# Altium footprint library 11-Fuse.PcbLib: 50 footprints (part 1 of 4)
Each footprint in its own frame and in the unit in brackets; x right, y up, seen from the top. Pads: shape width x height; smd on the part's side, far side on the other; paste and mask are expansions set on the pad; w line width, h text height; cw(c..) or ccw(c..) is an arc to the next point about the centre after c.
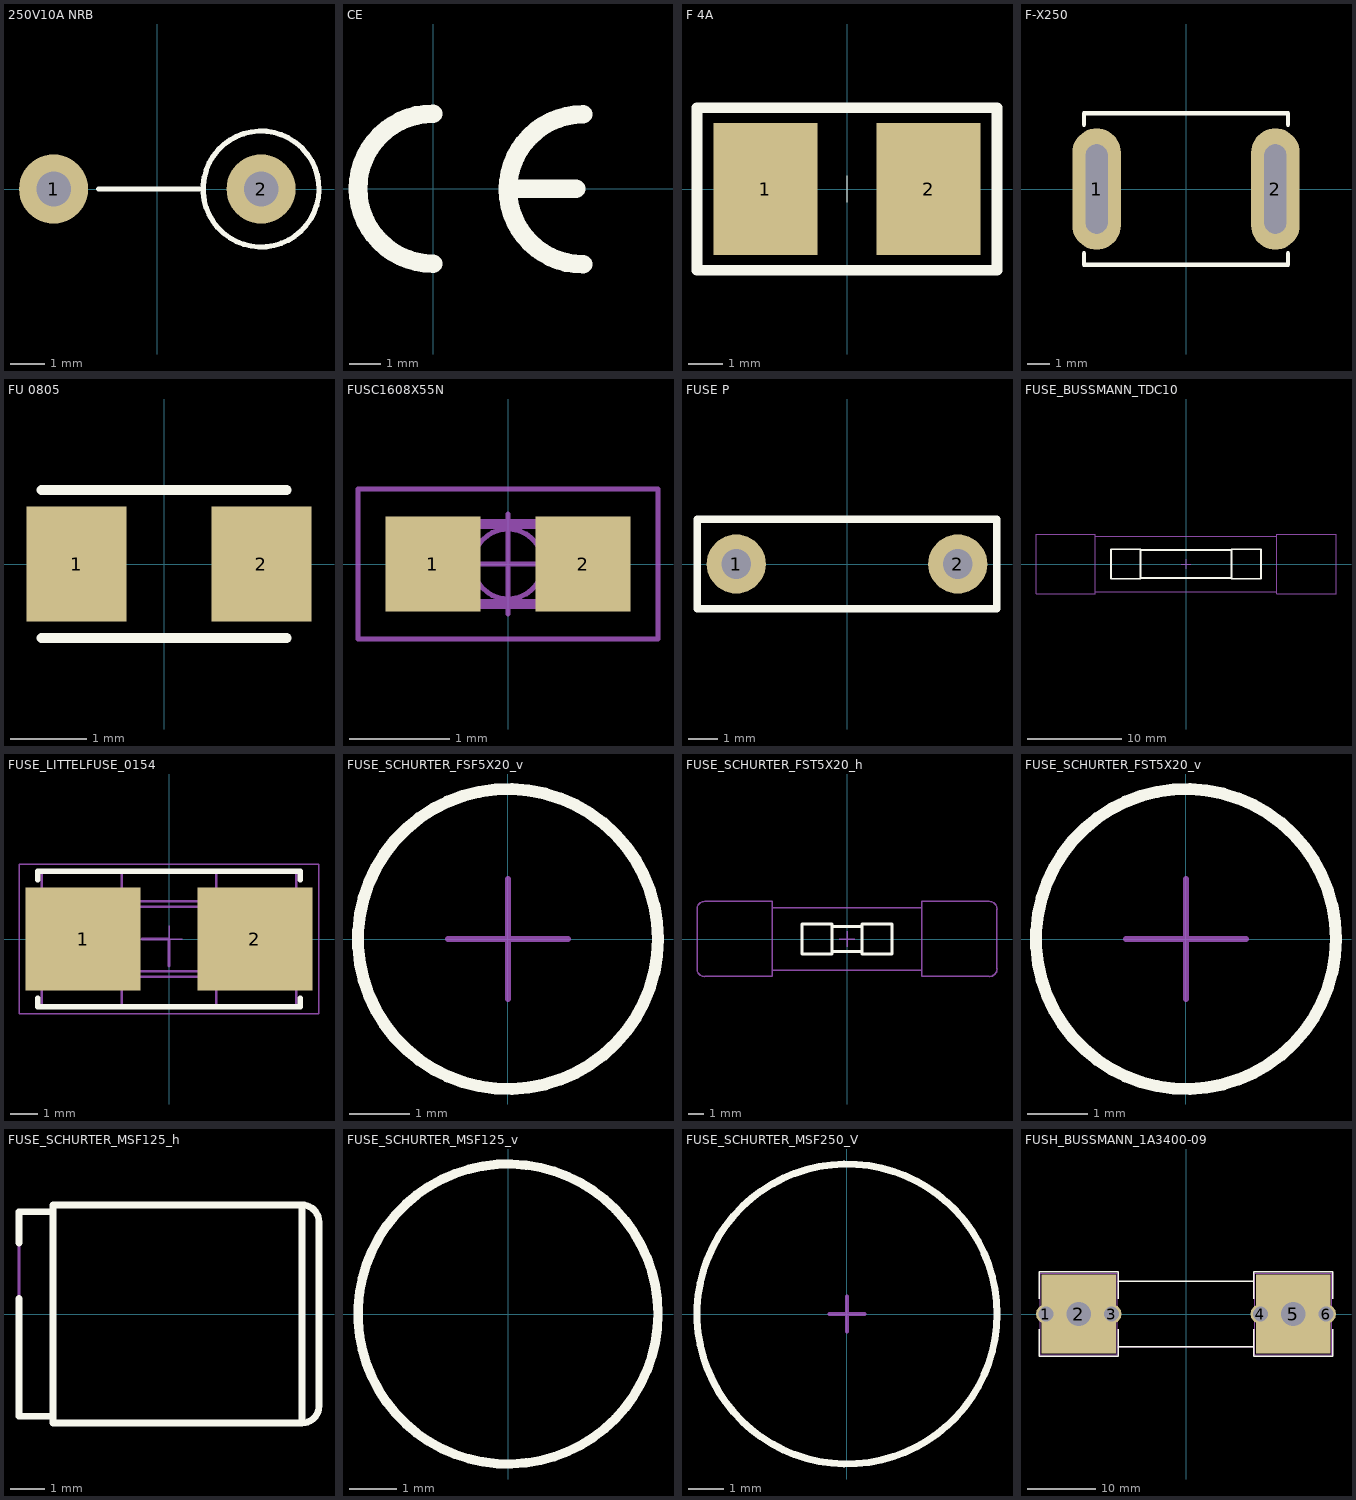
[diagram p0: the footprints below, top view; thin cyan lines are the x and y axes]

## 250V10A NRB [mm]
height 5.46
pads (2):
  round 2 hole 1: 1(-3,0) 2(3,0)
Top Overlay:
  lines w0.15: -1.7,0 1.2,0 ; 3.986,1.356 ccw(c3,0) 4.022,1.329
3D body "v200-100.stp": height 0.02, standoff -1.65, extent 2,-1 4,1
3D body "v200-100.stp": height 0.02, standoff -1.65, extent -4,-1 -2,1
3D body "250v10a-pic.stp": height 14.24, standoff -3, extent -3.05,-1.9 4.7,1.7

## CE [mm]
Top Overlay:
  lines w0.6: 0,-2.413 cw(c0,0) 0,2.413 ; 2.53,0 4.6,0 ; 4.826,-2.438 cw(c4.826,-0.025) 4.826,2.388
3D body "ce.stp": height 0.02, standoff 0, extent -2.725,-2.725 4.82,2.725

## F 4A [mm]
height 5.46
pads (2):
  rect 3x3.81 smd: 1(-2.349,0)
  rect 3x3.81 smd mask+0.07: 2(2.349,0)
Top Overlay:
  lines w0.025: 0,-0.381 0,0.381
  lines w0.305: -4.318,-2.337 4.318,-2.337 4.318,2.337 -4.318,2.337 -4.318,-2.337
3D body "3-3_81.stp": height 0.01, standoff 0, extent 0.85,-1.905 3.85,1.905
3D body "3-3_81.stp": height 0.01, standoff 0, extent -3.849,-1.905 -0.849,1.905
3D body "1812_ptc.stp": height 1, standoff 0, extent -2.388,-1.676 2.342,1.734

## F-X250 [mm]
height 5.46
pads (2):
  oval 2.2x5.5 hole 1 slot 4.05 at 90 deg mask+0.07: 1(-4.05,0)
  oval 2.2x5.5 hole 1 slot 4.05 at 90 deg: 2(4.05,0)
Top Overlay:
  lines w0.2: -4.623,-2.921 -4.623,-3.429 4.623,-3.429 4.623,-2.921 ; -4.623,2.921 -4.623,3.429 4.623,3.429 4.623,2.921
3D body "f-250.stp": height 1.7, standoff -1.3, extent -4.45,-3.25 4.45,3.25
3D body "pad5_5-2_2_0_8.stp": height 0, standoff -2.2, extent -5.169,-2.757 -2.969,2.743
3D body "pad5_5-2_2_0_8.stp": height 0, standoff -2.2, extent 2.984,-2.763 5.184,2.737

## FU 0805 [mm] "PTC"
height 5.46
pads (2):
  rect 1.3x1.5 smd: 1(-1.143,0)
  rect 1.3x1.5 smd mask+0.07: 2(1.27,0)
Top Overlay:
  lines w0.127: -1.6,-0.965 1.6,-0.965 ; -1.6,0.965 1.6,0.965
3D body "p150-130.stp": height 0.02, standoff 0, extent 0.62,-0.75 1.92,0.75
3D body "p150-130.stp": height 0.02, standoff 0, extent -1.793,-0.75 -0.493,0.75
3D body "fb-0805.stp": height 0.87, standoff 0, extent -1,-0.75 1,0.75

## FUSC1608X55N [mm] "Chip Fuse, 2-Leads, Body 1.6mm x 0.8mm, IPC Medium Density"
height 0.55
pads (2):
  rect 0.95x0.95 smd: 1(-0.75,0) 2(0.75,0)
Mechanical 14:
  lines w0.1: -0.8,-0.4 0.8,-0.4 0.8,0.4 -0.8,0.4 -0.8,-0.4
Mechanical 15:
  circle w0.05: c0,0 r0.35
  lines w0.05: -0.5,0 0.5,0 ; 0,-0.5 0,0.5 ; -1.5,-0.75 1.5,-0.75 1.5,0.75 -1.5,0.75 -1.5,-0.75
3D body "FUSC1608X55N.stp": height 0.5, standoff 0, extent -0.85,-0.45 0.85,0.45
3D body "p095-095.stp": height 0.02, standoff 0, extent 0.275,-0.475 1.225,0.475
3D body "p095-095.stp": height 0.02, standoff 0, extent -1.225,-0.475 -0.275,0.475

## FUSE P [mm]
height 0.55
pads (2):
  round 2 hole 1: 1(-3.75,0) 2(3.75,0)
Top Overlay:
  lines w0.254: -5.08,-1.524 5.08,-1.524 5.08,1.524 -5.08,1.524 -5.08,-1.524
3D body "v200-100.stp": height 0.02, standoff -1.65, extent 2.75,-1 4.75,1
3D body "v200-100.stp": height 0.02, standoff -1.65, extent -4.75,-1 -2.75,1
3D body "fuse-p.stp": height 10, standoff -1.53, extent -4.25,-0.78 4.25,0.74

## FUSE_BUSSMANN_TDC10 [mm] "6.3x32mm Cylindrical Fuse, TDC10 Serie"
height 6.3
Top Overlay:
  lines w0.2: -4.85,-1.475 4.85,-1.475 ; -4.85,1.475 4.85,1.475 ; -8,-1.575 -8,1.575 -4.85,1.575 -4.85,-1.575 -8,-1.575 ; 4.85,-1.575 4.85,1.575 8,1.575 8,-1.575 4.85,-1.575
Mechanical 8:
  lines w0.1: -0.5,0 0,0 ; 0,-0.5 0,0 ; 0,0.5 0,0 ; 0.5,0 0,0
Mechanical 14:
  lines w0.1: -9.7,-2.95 9.7,-2.95 ; -9.7,2.95 9.7,2.95 ; -16,-3.15 -16,3.15 -9.7,3.15 -9.7,-3.15 -16,-3.15 ; 9.7,-3.15 9.7,3.15 16,3.15 16,-3.15 9.7,-3.15
3D body "FUSE_BUSSMANN_TDC10.stp": height 6.3, standoff 0, extent -16,-3.15 16,3.15

## FUSE_LITTELFUSE_0154 [mm] "SMF Fuse and Holder, 2-Leads, Body 9.73x5.03mm"
height 3.81
pads (2):
  rect 4.245x3.81 smd: 1(-3.188,0) 2(3.188,0)
Top Overlay:
  lines w0.2: -4.865,-2.2 -4.865,-2.515 4.865,-2.515 4.865,-2.2 ; -4.865,2.2 -4.865,2.515 4.865,2.515 4.865,2.2
Mechanical 8:
  lines w0.1: -4.188,0 -3.188,0 -3.188,-1 ; -1,0 0,0 0,-1 ; 3.188,-1 3.188,0 4.188,0
Mechanical 14:
  lines w0.1: -4.715,-1.001 -4.865,-1 -4.865,1 -4.715,1 ; -1.75,-2.515 -1.75,-1.4 ; -1.75,1.4 -1.75,2.515 ; -1.6,-1.195 1.6,-1.195 ; -1.6,1.195 1.6,1.195 ; 1.75,-2.515 1.75,-1.415 ; 1.75,1.4 1.75,2.515 ; 4.715,-1 4.865,-1 4.865,1 4.715,1 ; -4.715,-2.515 4.715,-2.515 4.715,2.515 -4.715,2.515 -4.715,-2.515 ; -3.15,-1.4 3.15,-1.4 3.15,1.4 -3.15,1.4 -3.15,-1.4 ; -3.05,-1.145 ccw(c-2.85,-1.145) -2.85,-1.345 -1.6,-1.345 -1.6,1.345 -2.85,1.345 ccw(c-2.85,1.145) -3.05,1.145 -3.05,-1.145 ; 1.6,-1.345 1.6,1.345 2.85,1.345 cw(c2.85,1.145) 3.05,1.145 3.05,-1.145 cw(c2.85,-1.145) 2.85,-1.345 1.6,-1.345
Mechanical 15:
  lines w0.05: -0.5,0 0.5,0 ; 0,-0.5 0,0.5 ; -5.56,-2.765 -5.56,2.765 5.56,2.765 5.56,-2.765 -5.56,-2.765
3D body "FUSE_LITTELFUSE_0154.stp": height 3.81, standoff 0, extent -4.865,-2.515 4.865,2.515
3D body "p425-381.stp": height 0.02, standoff 0, extent 1.062,-1.905 5.312,1.905
3D body "p425-381.stp": height 0.02, standoff 0, extent -5.3,-1.905 -1.05,1.905

## FUSE_SCHURTER_FSF5X20_v [mm] "5x20mm Cylindrical Fuse, SCHURTER FSF5X20 Serie"
height 20.5
Top Overlay:
  circle w0.2: c0,0 r2.5
Mechanical 8:
  lines w0.1: -1,0 0,0 ; 0,-1 0,0 ; 0,1 0,0 ; 1,0 0,0
Mechanical 14:
  circle w0.1: c0,0 r2.5
3D body "FUSE_SCHURTER_FSF5X20_v.stp": height 20, standoff 0, extent -2.5,-2.5 2.5,2.5

## FUSE_SCHURTER_FST5X20_h [mm] "5x20mm Cylindrical Fuse, SCHURTER FST5X20 Serie"
height 5.3
Top Overlay:
  lines w0.2: -1,-0.84 1,-0.84 ; -1,0.84 1,0.84 ; -3,-1 -3,1 -1,1 -1,-1 -3,-1 ; 1,-1 3,-1 3,1 1,1 1,-1
Mechanical 8:
  lines w0.1: -0.5,0 0,0 ; 0,-0.5 0,0 ; 0,0.5 0,0 ; 0.5,0 0,0
Mechanical 14:
  lines w0.1: -5,-2.1 5,-2.1 ; -5,2.1 5,2.1 ; -10,-2 ccw(c-9.5,-2) -9.5,-2.5 -5,-2.5 -5,2.5 -9.5,2.5 ccw(c-9.5,2) -10,2 -10,-2 ; 5,-2.5 5,2.5 9.5,2.5 cw(c9.5,2) 10,2 10,-2 cw(c9.5,-2) 9.5,-2.5 5,-2.5
3D body "FUSE_SCHURTER_FST5X20.stp": height 5, standoff 0, extent -10,-2.5 10,2.5

## FUSE_SCHURTER_FST5X20_v [mm] "5x20mm Cylindrical Fuse, SCHURTER FST5X20 Serie"
height 20.5
Top Overlay:
  circle w0.2: c0,0 r2.5
Mechanical 8:
  lines w0.1: -1,0 0,0 ; 0,-1 0,0 ; 0,1 0,0 ; 1,0 0,0
Mechanical 14:
  circle w0.1: c0,0 r2.5
3D body "FUSE_SCHURTER_FST5X20_v.stp": height 20, standoff 0, extent -2.5,-2.5 2.5,2.5

## FUSE_SCHURTER_MSF125_h [mm] "SHURTER MSF 125 Serie, Subminiature Fuse, 6.4 mm Diameter  x 8.8mm Height (Horizontal Mount)"
height 6.6
Top Overlay:
  lines w0.2: 3.556,0.459 3.556,-3 4.556,-3 ; 3.556,2.081 3.556,3 4.556,3 ; 11.856,-3.2 ccw(c11.856,-2.7) 12.356,-2.7 12.356,2.7 ccw(c11.856,2.7) 11.856,3.2 ; 11.856,-3.2 4.556,-3.2 4.556,3.2 11.856,3.2 ; 11.856,-3.2 11.856,3.2
Mechanical 14:
  lines w0.1: 4.556,-3 3.556,-3 3.556,3 4.556,3 ; 11.556,3.2 11.856,3.2 ; 11.856,-3.2 ccw(c11.856,-2.7) 12.356,-2.7 12.356,2.7 ccw(c11.856,2.7) 11.856,3.2 ; 11.856,-3.2 4.556,-3.2 4.556,3.2 11.856,3.2 ; 11.856,-3.2 11.856,3.2
3D body "FUSE_SCHURTER_MSF125_h.stp": height 6.63, standoff 0.23, extent -0.744,-3.2 12.356,3.2

## FUSE_SCHURTER_MSF125_v [mm] "SHURTER MSF 125 Serie, Subminiature Fuse, 6.4 mm Diameter  x 8.8mm Height"
height 8.8
Top Overlay:
  circle w0.2: c0,0 r3.2
Mechanical 14:
  circle w0.1: c0,0 r3.2
3D body "FUSE_SCHURTER_MSF125_v.stp": height 15.45, standoff 2.35, extent -3.2,-3.2 3.2,3.2

## FUSE_SCHURTER_MSF250_V [mm] "Subminiature Fuse, Pitch 5.08mm, 8.5 mm Diameter  x 8.5mm Height, MSF 250 Serie"
height 8.5
Top Overlay:
  circle w0.2: c0,0 r4.25
Mechanical 8:
  lines w0.1: -0.5,0 0,0 ; 0,-0.5 0,0 ; 0,0.5 0,0 ; 0.5,0 0,0
Mechanical 14:
  circle w0.1: c0,0 r4.25
3D body "FUSE_SCHURTER_MSF250.stp": height 12.85, standoff 0.9, extent -4.25,-4.25 4.25,4.25

## FUSH_BUSSMANN_1A3400-09 [mm] "BUSSMANN 1A3400-09, Fuse holder for 10x38mm Fuses"
height 18
pads (6):
  round 2.9 hole 2.2: 1(-20.65,0) 3(-10.95,0) 4(10.95,0) 6(20.65,0)
  rect 11x11.7 / inner round 5.5 / far side round 5.5 hole 3.6: 2(-15.8,0) 5(15.8,0)
Top Overlay:
  lines w0.2: -21.65,-2.25 -21.65,-6.2 -9.95,-6.2 -9.95,-2.25 ; -21.65,2.25 -21.65,6.2 -9.95,6.2 -9.95,2.25 ; -9.95,-4.8 9.95,-4.8 ; -9.95,4.8 9.95,4.8 ; 9.95,-2.25 9.95,-6.2 21.65,-6.2 21.65,-2.25 ; 9.95,2.25 9.95,6.2 21.65,6.2 21.65,2.25
Top Solder:
  region: -21.2,5.75 -21.2,-5.75 -10.4,-5.75 -10.4,5.75
  region: 10.4,5.75 10.4,-5.75 21.2,-5.75 21.2,5.75
Mechanical 14:
  lines w0.1: -10.15,-4.8 10.15,-4.8 ; -10.15,4.8 10.15,4.8 ; -21.45,-6 -10.15,-6 -10.15,6 -21.45,6 -21.45,-6 ; 10.15,-6 21.45,-6 21.45,6 10.15,6 10.15,-6
3D body "FUSH_BUSSMANN_1A3400-09.stp": height 18, standoff -3.8, extent -21.35,-5.948 -10.25,5.948
3D body "FUSH_BUSSMANN_1A3400-09.stp": height 18, standoff -3.8, extent 10.25,-5.948 21.35,5.948